# EAGLE library part SENSARION-SHT31 (library FaBo-Environment)
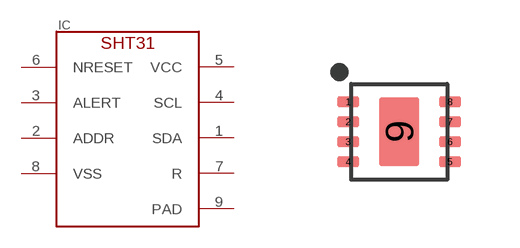
[diagram p17: symbol with the pads of SENSARION-SHT31; footprint SENSARION-SHT31]

Designator prefix IC

## SENSARION-SHT31  [SENSARION-SHT31]
1  SDA
2  ADDR
3  ALERT
4  SCL
5  VCC
6  NRESET
7  R
8  VSS
9  PAD

## Footprint SENSARION-SHT31 (pad centres in mm)
smd 0.55 x 0.25: 1 -1.275,0.75; 2 -1.275,0.25; 3 -1.275,-0.25; 4 -1.275,-0.75; 5 1.275,-0.75; 6 1.275,-0.25; 7 1.275,0.25; 8 1.275,0.75
smd 1 x 1.7: 9 0,0